# EAGLE library part NL27WZ125?*G (library NL27WZ)
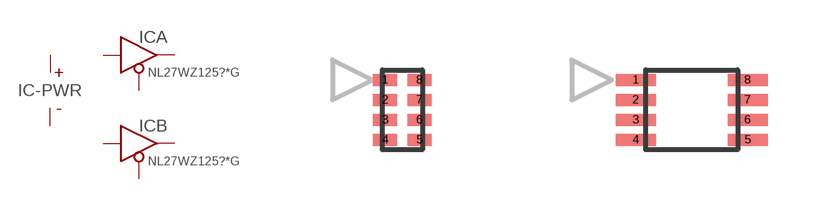
[diagram p0: symbol with the pads of UDFN8-0.5; footprints UDFN8-0.5, US8]

Designator prefix IC; gates A=BUFFER-TRISTATE-LOW-EN B=BUFFER-TRISTATE-LOW-EN -PWR=PWR

## NL27WZ125MU1TCG (MARK: M0; MF: ONSEMI; MPN: NL27WZ125USG)  [UDFN8-0.5]
1  A:!EN  in
2  A:IN  in
3  B:OUT  out
4  -PWR:GND  pwr
5  B:IN  in
6  A:OUT  out
7  B:!EN  in
8  -PWR:VCC  in

## NL27WZ125USG  [US8]
Pads as for UDFN8-0.5

## Footprint UDFN8-0.5 (pad centres in mm)
smd 0.6 x 0.3: 1 -0.43,0.75; 2 -0.43,0.25; 3 -0.43,-0.25; 4 -0.43,-0.75; 5 0.43,-0.75; 6 0.43,-0.25; 7 0.43,0.25; 8 0.43,0.75

## Footprint US8 (pad centres in mm)
smd 1 x 0.3: 1 -1.4,0.75; 2 -1.4,0.25; 3 -1.4,-0.25; 4 -1.4,-0.75; 5 1.4,-0.75; 6 1.4,-0.25; 7 1.4,0.25; 8 1.4,0.75